# Altium integrated library NSC Interface.IntLib: 1288 symbols (part 25 of 45)
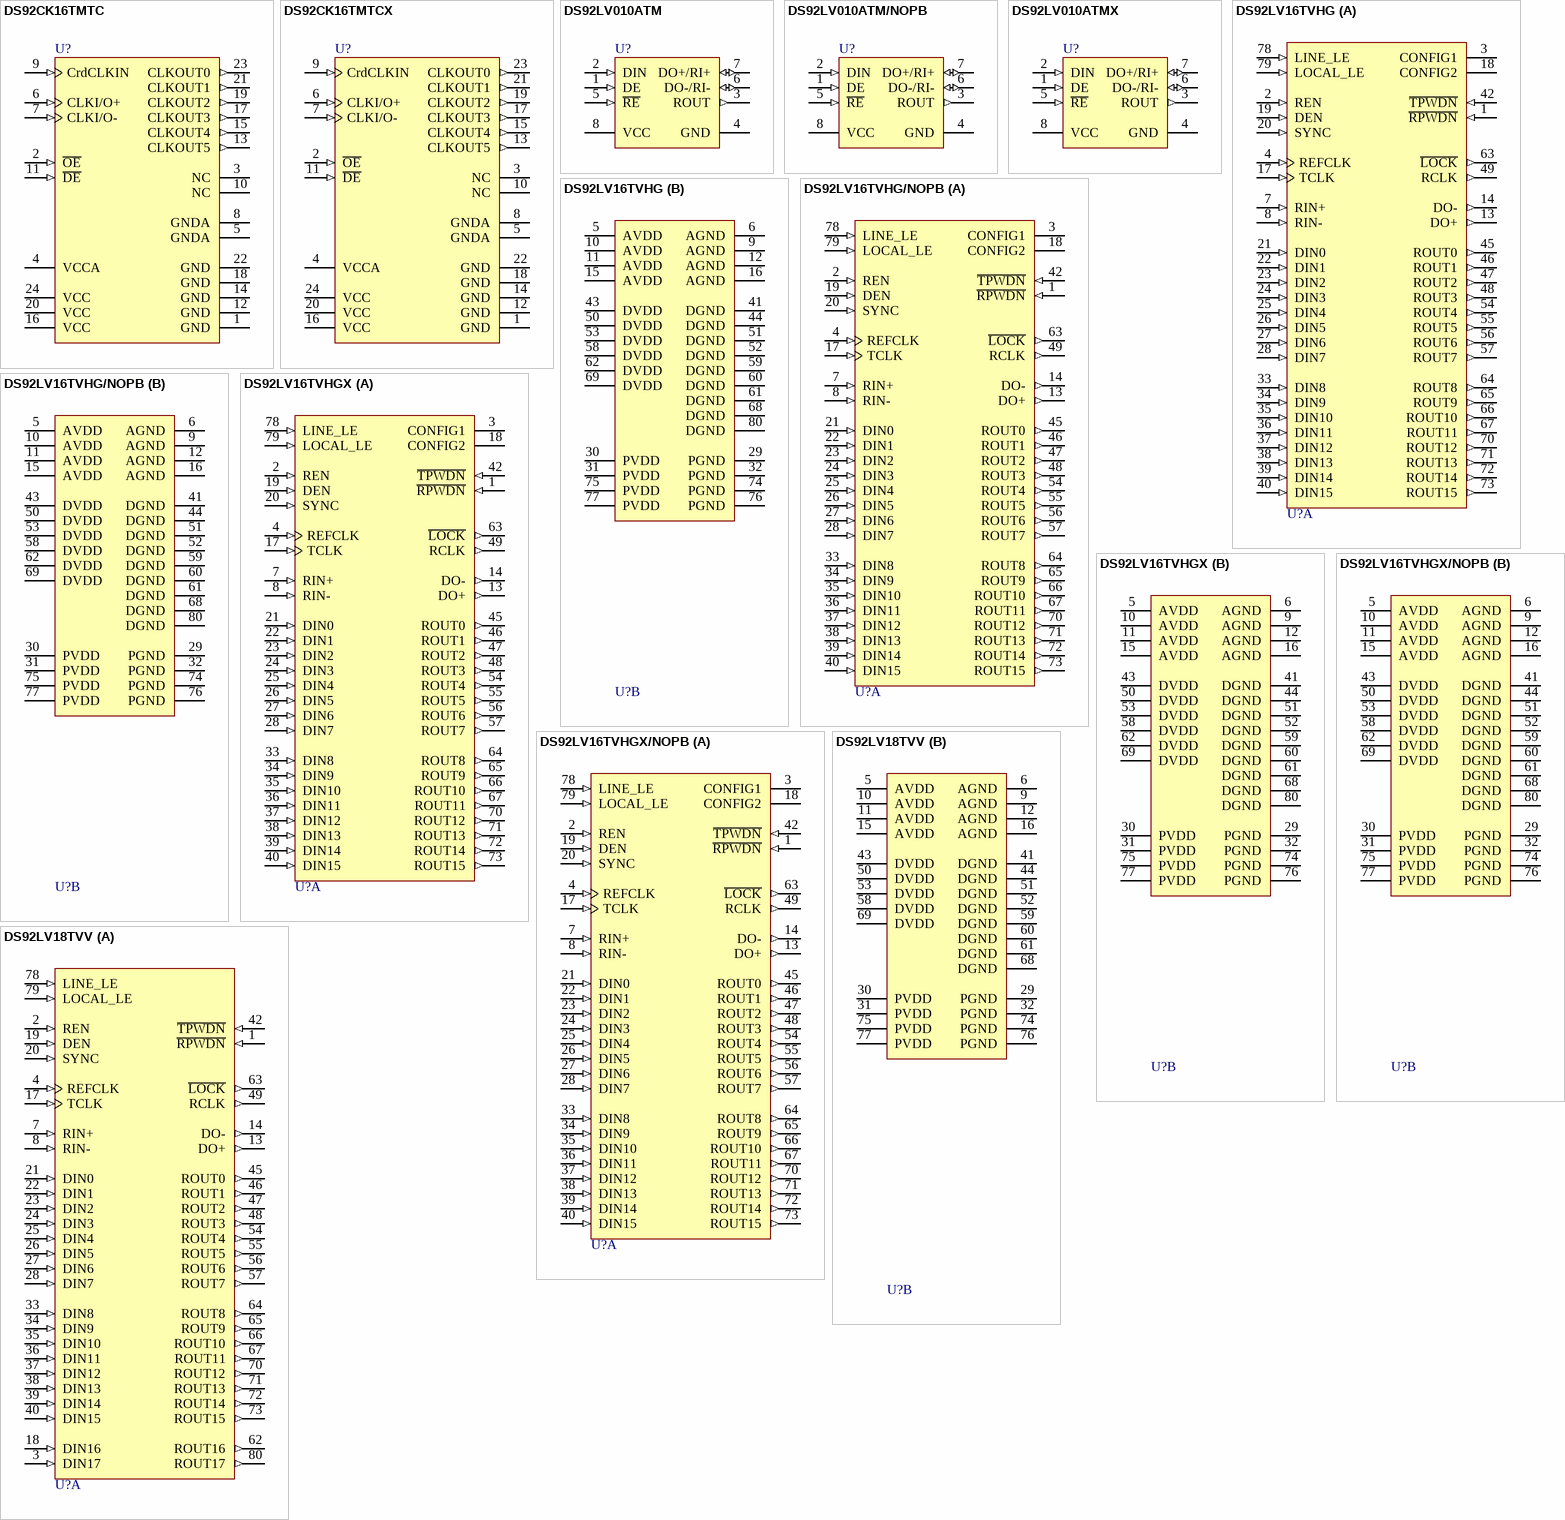
[diagram p136: symbols DS92CK16TMTC to DS92LV18TVV]

## DS92LV16TVHGX/NOPB
designator U?
16-Bit Bus LVDS Serializer/Deserializer - 25 - 80 MHz, 80-pin LQFP, Pb-Free; PartNumber: DS92LV16TVHGX/NOPB; Manufacturer: National Semiconductor; PackageTopMarking: NSUZXYTTE#*DS92LV16TVHG*BBBBB; PowerWise: N; CompType: Interface IC; Published: 1-Mar-2010; DatasheetVersion: Feb-2002; PackageVersion: revE, Feb-2005; PackageReference: VHG80A; Publisher: Altium Limited; PackageDescription: LQFP, Jedec, Metric, 12 x 12 x 1.4mm, 80 Lead, 0.5mm Pitch; Supplier 1: Digi-Key; Supplier Part Number 1: DS92LV16TVHGX-ND; RoHS: Y; PinCount: 80; Code_JEDEC: MS-026-BDD; ComponentLink1Description: DS92LV16 Datasheet; ComponentLink1URL: http://www.national.com/ds/DS/DS92LV16.pdf; ComponentLink2Description: DS92LV16 Web Page; ComponentLink2URL: http://www.national.com/pf/DS/DS92LV16.html; ComponentLink3Description: VHG80A Package Page; ComponentLink3URL: http://www.national.com/packaging/folders/vhg80a.html
footprint VHG80A_N (Thin QFP, 80-Leads, Body 12x12mm, Pitch 0.5mm, IPC Medium Density)
footprint VHG80A_L (Thin QFP, 80-Leads, Body 12x12mm, Pitch 0.5mm, IPC High Density)
footprint VHG80A_M (Thin QFP, 80-Leads, Body 12x12mm, Pitch 0.5mm, IPC Low Density)
part A pins: 1 ~{RPWDN} (in), 2 REN (in), 3 CONFIG1, 4 REFCLK (in), 7 RIN+ (in), 8 RIN- (in), 13 DO+ (out), 14 DO- (out), 17 TCLK (in), 18 CONFIG2, 19 DEN (in), 20 SYNC (in), 21 DIN0 (in), 22 DIN1 (in), 23 DIN2 (in), 24 DIN3 (in), 25 DIN4 (in), 26 DIN5 (in), 27 DIN6 (in), 28 DIN7 (in), 33 DIN8 (in), 34 DIN9 (in), 35 DIN10 (in), 36 DIN11 (in), 37 DIN12 (in), 38 DIN13 (in), 39 DIN14 (in), 40 DIN15 (in), 42 ~{TPWDN} (in), 45 ROUT0 (out), 46 ROUT1 (out), 47 ROUT2 (out), 48 ROUT3 (out), 49 RCLK (out), 54 ROUT4 (out), 55 ROUT5 (out), 56 ROUT6 (out), 57 ROUT7 (out), 63 ~{LOCK} (out), 64 ROUT8 (out), 65 ROUT9 (out), 66 ROUT10 (out), 67 ROUT11 (out), 70 ROUT12 (out), 71 ROUT13 (out), 72 ROUT14 (out), 73 ROUT15 (out), 78 LINE_LE (in), 79 LOCAL_LE (in)
part B pins: 5 AVDD (power), 6 AGND (power), 9 AGND (power), 10 AVDD (power), 11 AVDD (power), 12 AGND (power), 15 AVDD (power), 16 AGND (power), 29 PGND (power), 30 PVDD (power), 31 PVDD (power), 32 PGND (power), 41 DGND (power), 43 DVDD (power), 44 DGND (power), 50 DVDD (power), 51 DGND (power), 52 DGND (power), 53 DVDD (power), 58 DVDD (power), 59 DGND (power), 60 DGND (power), 61 DGND (power), 62 DVDD (power), 68 DGND (power), 69 DVDD (power), 74 PGND (power), 75 PVDD (power), 76 PGND (power), 77 PVDD (power), 80 DGND (power)

## DS92LV18TVV
designator U?
18-Bit Bus LVDS Serializer/Deserializer - 15 - 66 MHz, 80-pin LQFP; PartNumber: DS92LV18TVV; Manufacturer: National Semiconductor; PackageTopMarking: NSUZXYTTE#*DS92LV18TVV*BBBBB; PowerWise: N; CompType: Interface IC; Published: 4-Dec-2008; DatasheetVersion: Jun-2006; PackageVersion: revE, Feb-2005; PackageReference: VHG80A; Publisher: Altium Limited; PackageDescription: LQFP, Jedec, Metric, 12 x 12 x 1.4mm, 80 Lead, 0.5mm Pitch; Supplier 1: Farnell; Supplier Part Number 1: 8181306; RoHS: N; PinCount: 80; Code_JEDEC: MS-026-BDD; ComponentLink1Description: DS92LV18 Datasheet; ComponentLink1URL: http://www.national.com/ds/DS/DS92LV18.pdf; ComponentLink2Description: DS92LV18 Web Page; ComponentLink2URL: http://www.national.com/pf/DS/DS92LV18.html; ComponentLink3Description: VHG80A Package Page; ComponentLink3URL: http://www.national.com/packaging/folders/vhg80a.html
footprint VHG80A_N (Thin QFP, 80-Leads, Body 12x12mm, Pitch 0.5mm, IPC Medium Density)
footprint VHG80A_L (Thin QFP, 80-Leads, Body 12x12mm, Pitch 0.5mm, IPC High Density)
footprint VHG80A_M (Thin QFP, 80-Leads, Body 12x12mm, Pitch 0.5mm, IPC Low Density)
part A pins: 1 ~{RPWDN} (in), 2 REN (in), 3 DIN17 (in), 4 REFCLK (in), 7 RIN+ (in), 8 RIN- (in), 13 DO+ (out), 14 DO- (out), 17 TCLK (in), 18 DIN16 (in), 19 DEN (in), 20 SYNC (in), 21 DIN0 (in), 22 DIN1 (in), 23 DIN2 (in), 24 DIN3 (in), 25 DIN4 (in), 26 DIN5 (in), 27 DIN6 (in), 28 DIN7 (in), 33 DIN8 (in), 34 DIN9 (in), 35 DIN10 (in), 36 DIN11 (in), 37 DIN12 (in), 38 DIN13 (in), 39 DIN14 (in), 40 DIN15 (in), 42 ~{TPWDN} (in), 45 ROUT0 (out), 46 ROUT1 (out), 47 ROUT2 (out), 48 ROUT3 (out), 49 RCLK (out), 54 ROUT4 (out), 55 ROUT5 (out), 56 ROUT6 (out), 57 ROUT7 (out), 62 ROUT16 (out), 63 ~{LOCK} (out), 64 ROUT8 (out), 65 ROUT9 (out), 66 ROUT10 (out), 67 ROUT11 (out), 70 ROUT12 (out), 71 ROUT13 (out), 72 ROUT14 (out), 73 ROUT15 (out), 78 LINE_LE (in), 79 LOCAL_LE (in), 80 ROUT17 (out)
part B pins: 5 AVDD (power), 6 AGND (power), 9 AGND (power), 10 AVDD (power), 11 AVDD (power), 12 AGND (power), 15 AVDD (power), 16 AGND (power), 29 PGND (power), 30 PVDD (power), 31 PVDD (power), 32 PGND (power), 41 DGND (power), 43 DVDD (power), 44 DGND (power), 50 DVDD (power), 51 DGND (power), 52 DGND (power), 53 DVDD (power), 58 DVDD (power), 59 DGND (power), 60 DGND (power), 61 DGND (power), 68 DGND (power), 69 DVDD (power), 74 PGND (power), 75 PVDD (power), 76 PGND (power), 77 PVDD (power)

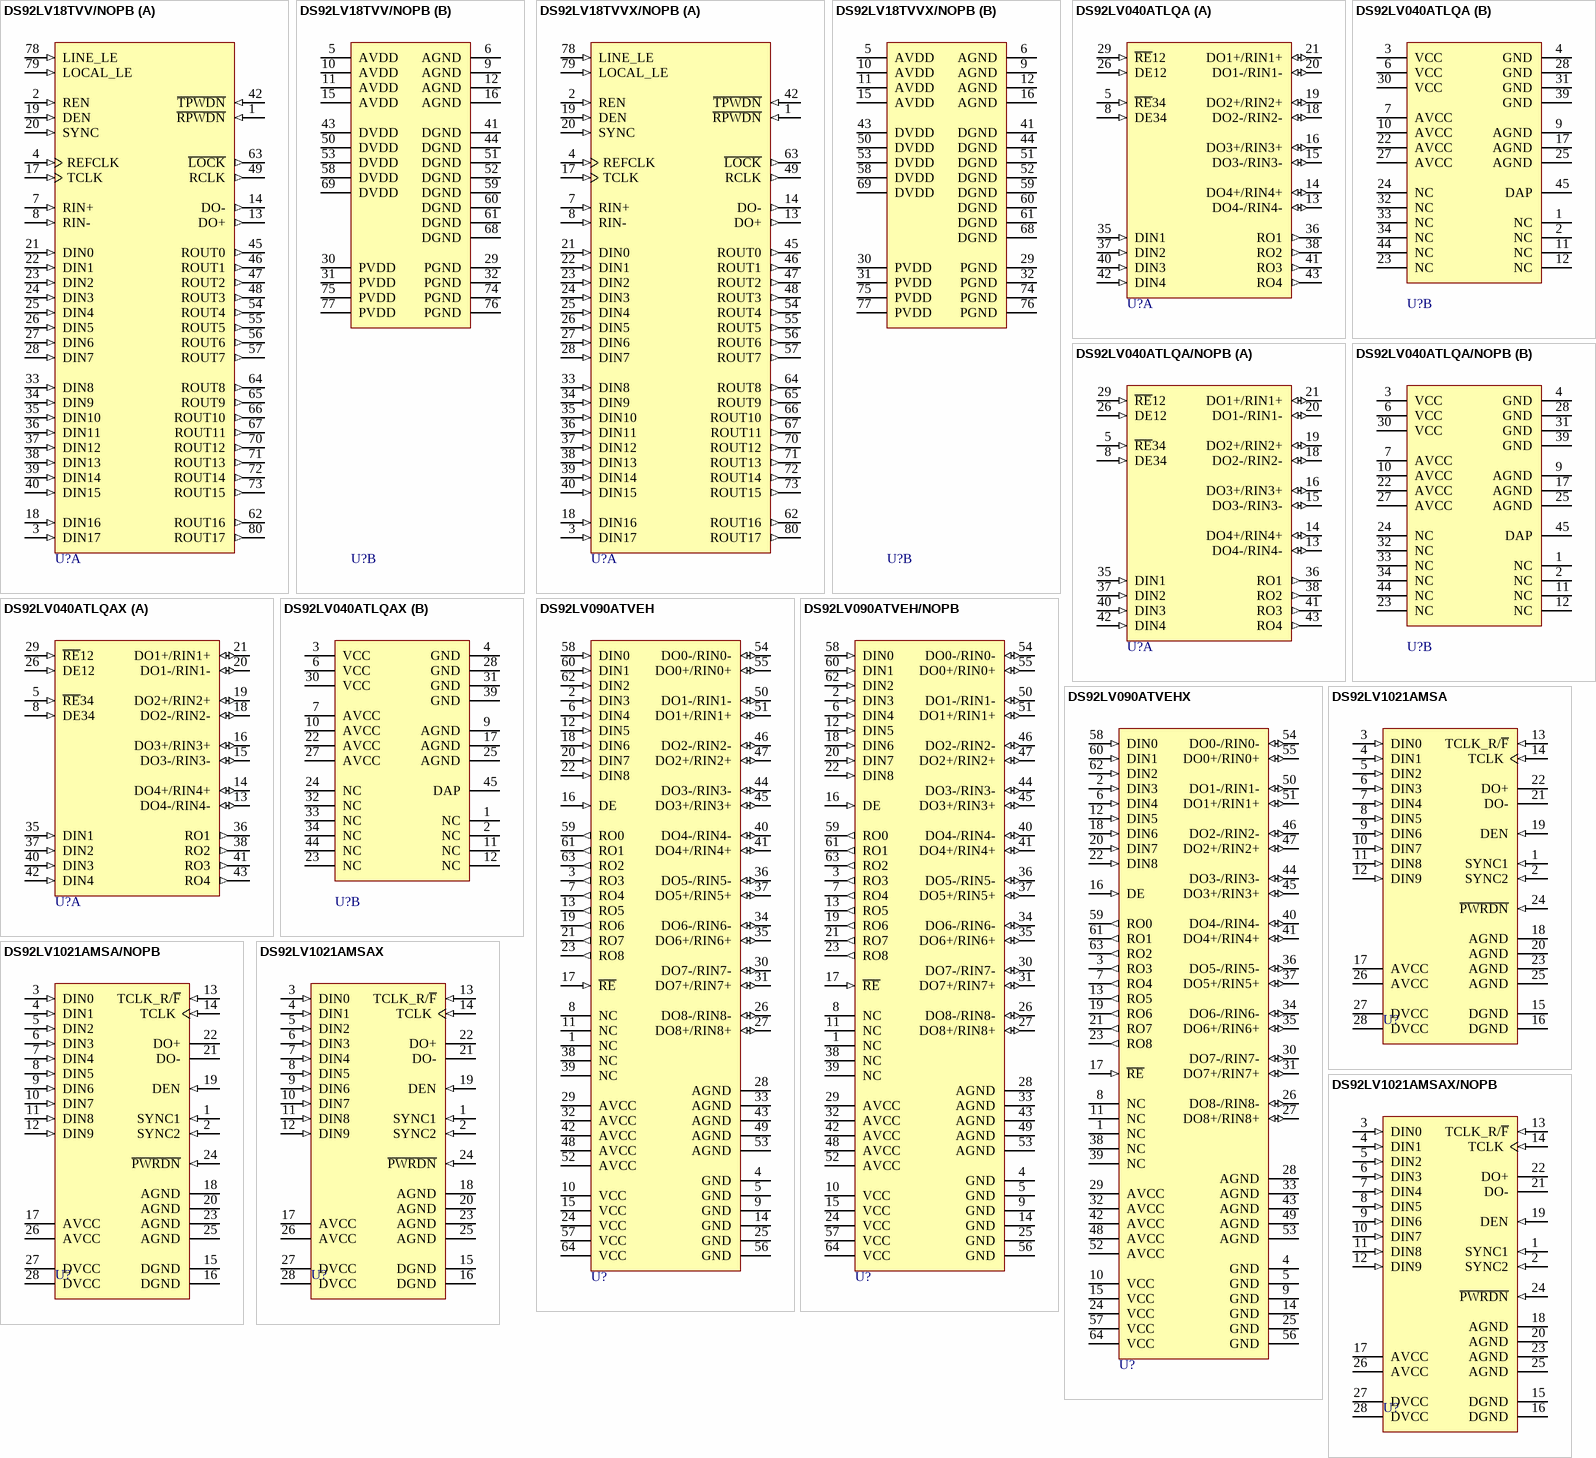
[diagram p65: symbols DS92LV18TVV/NOPB to DS92LV1021AMSAX/NOPB]

## DS92LV18TVV/NOPB
designator U?
18-Bit Bus LVDS Serializer/Deserializer - 15-66 MHz, 80-pin LQFP, Pb-Free; PartNumber: DS92LV18TVV/NOPB; Manufacturer: National Semiconductor; PackageTopMarking: NSUZXYTTE#*DS92LV18TVV*BBBBB; PowerWise: N; CompType: Interface IC; Published: 1-Mar-2010; DatasheetVersion: Jun-2006; PackageVersion: revE, Feb-2005; PackageReference: VHG80A; Publisher: Altium Limited; PackageDescription: LQFP, Jedec, Metric, 12 x 12 x 1.4mm, 80 Lead, 0.5mm Pitch; Supplier 1: Digi-Key; Supplier Part Number 1: DS92LV18TVV-ND; Supplier 2: Farnell; Supplier Part Number 2: 1693938; RoHS: Y; PinCount: 80; Code_JEDEC: MS-026-BDD; ComponentLink1Description: DS92LV18 Datasheet; ComponentLink1URL: http://www.national.com/ds/DS/DS92LV18.pdf; ComponentLink2Description: DS92LV18 Web Page; ComponentLink2URL: http://www.national.com/pf/DS/DS92LV18.html; ComponentLink3Description: VHG80A Package Page; ComponentLink3URL: http://www.national.com/packaging/folders/vhg80a.html
footprint VHG80A_N (Thin QFP, 80-Leads, Body 12x12mm, Pitch 0.5mm, IPC Medium Density)
footprint VHG80A_L (Thin QFP, 80-Leads, Body 12x12mm, Pitch 0.5mm, IPC High Density)
footprint VHG80A_M (Thin QFP, 80-Leads, Body 12x12mm, Pitch 0.5mm, IPC Low Density)
part A pins: 1 ~{RPWDN} (in), 2 REN (in), 3 DIN17 (in), 4 REFCLK (in), 7 RIN+ (in), 8 RIN- (in), 13 DO+ (out), 14 DO- (out), 17 TCLK (in), 18 DIN16 (in), 19 DEN (in), 20 SYNC (in), 21 DIN0 (in), 22 DIN1 (in), 23 DIN2 (in), 24 DIN3 (in), 25 DIN4 (in), 26 DIN5 (in), 27 DIN6 (in), 28 DIN7 (in), 33 DIN8 (in), 34 DIN9 (in), 35 DIN10 (in), 36 DIN11 (in), 37 DIN12 (in), 38 DIN13 (in), 39 DIN14 (in), 40 DIN15 (in), 42 ~{TPWDN} (in), 45 ROUT0 (out), 46 ROUT1 (out), 47 ROUT2 (out), 48 ROUT3 (out), 49 RCLK (out), 54 ROUT4 (out), 55 ROUT5 (out), 56 ROUT6 (out), 57 ROUT7 (out), 62 ROUT16 (out), 63 ~{LOCK} (out), 64 ROUT8 (out), 65 ROUT9 (out), 66 ROUT10 (out), 67 ROUT11 (out), 70 ROUT12 (out), 71 ROUT13 (out), 72 ROUT14 (out), 73 ROUT15 (out), 78 LINE_LE (in), 79 LOCAL_LE (in), 80 ROUT17 (out)
part B pins: 5 AVDD (power), 6 AGND (power), 9 AGND (power), 10 AVDD (power), 11 AVDD (power), 12 AGND (power), 15 AVDD (power), 16 AGND (power), 29 PGND (power), 30 PVDD (power), 31 PVDD (power), 32 PGND (power), 41 DGND (power), 43 DVDD (power), 44 DGND (power), 50 DVDD (power), 51 DGND (power), 52 DGND (power), 53 DVDD (power), 58 DVDD (power), 59 DGND (power), 60 DGND (power), 61 DGND (power), 68 DGND (power), 69 DVDD (power), 74 PGND (power), 75 PVDD (power), 76 PGND (power), 77 PVDD (power)

## DS92LV18TVVX/NOPB
designator U?
18-Bit Bus LVDS Serializer/Deserializer - 15-66 MHz, 80-pin LQFP, Pb-Free; PartNumber: DS92LV18TVVX/NOPB; Manufacturer: National Semiconductor; PackageTopMarking: NSUZXYTTE#*DS92LV18TVV*BBBBB; PowerWise: N; CompType: Interface IC; Published: 1-Mar-2010; DatasheetVersion: Jun-2006; PackageVersion: revE, Feb-2005; PackageReference: VHG80A; Publisher: Altium Limited; PackageDescription: LQFP, Jedec, Metric, 12 x 12 x 1.4mm, 80 Lead, 0.5mm Pitch; Supplier 1: Digi-Key; Supplier Part Number 1: DS92LV18TVVX-ND; RoHS: Y; PinCount: 80; Code_JEDEC: MS-026-BDD; ComponentLink1Description: DS92LV18 Datasheet; ComponentLink1URL: http://www.national.com/ds/DS/DS92LV18.pdf; ComponentLink2Description: DS92LV18 Web Page; ComponentLink2URL: http://www.national.com/pf/DS/DS92LV18.html; ComponentLink3Description: VHG80A Package Page; ComponentLink3URL: http://www.national.com/packaging/folders/vhg80a.html
footprint VHG80A_N (Thin QFP, 80-Leads, Body 12x12mm, Pitch 0.5mm, IPC Medium Density)
footprint VHG80A_L (Thin QFP, 80-Leads, Body 12x12mm, Pitch 0.5mm, IPC High Density)
footprint VHG80A_M (Thin QFP, 80-Leads, Body 12x12mm, Pitch 0.5mm, IPC Low Density)
part A pins: 1 ~{RPWDN} (in), 2 REN (in), 3 DIN17 (in), 4 REFCLK (in), 7 RIN+ (in), 8 RIN- (in), 13 DO+ (out), 14 DO- (out), 17 TCLK (in), 18 DIN16 (in), 19 DEN (in), 20 SYNC (in), 21 DIN0 (in), 22 DIN1 (in), 23 DIN2 (in), 24 DIN3 (in), 25 DIN4 (in), 26 DIN5 (in), 27 DIN6 (in), 28 DIN7 (in), 33 DIN8 (in), 34 DIN9 (in), 35 DIN10 (in), 36 DIN11 (in), 37 DIN12 (in), 38 DIN13 (in), 39 DIN14 (in), 40 DIN15 (in), 42 ~{TPWDN} (in), 45 ROUT0 (out), 46 ROUT1 (out), 47 ROUT2 (out), 48 ROUT3 (out), 49 RCLK (out), 54 ROUT4 (out), 55 ROUT5 (out), 56 ROUT6 (out), 57 ROUT7 (out), 62 ROUT16 (out), 63 ~{LOCK} (out), 64 ROUT8 (out), 65 ROUT9 (out), 66 ROUT10 (out), 67 ROUT11 (out), 70 ROUT12 (out), 71 ROUT13 (out), 72 ROUT14 (out), 73 ROUT15 (out), 78 LINE_LE (in), 79 LOCAL_LE (in), 80 ROUT17 (out)
part B pins: 5 AVDD (power), 6 AGND (power), 9 AGND (power), 10 AVDD (power), 11 AVDD (power), 12 AGND (power), 15 AVDD (power), 16 AGND (power), 29 PGND (power), 30 PVDD (power), 31 PVDD (power), 32 PGND (power), 41 DGND (power), 43 DVDD (power), 44 DGND (power), 50 DVDD (power), 51 DGND (power), 52 DGND (power), 53 DVDD (power), 58 DVDD (power), 59 DGND (power), 60 DGND (power), 61 DGND (power), 68 DGND (power), 69 DVDD (power), 74 PGND (power), 75 PVDD (power), 76 PGND (power), 77 PVDD (power)

## DS92LV040ATLQA
designator U?
4 Channel Bus LVDS Transceiver, 44-pin LLP; PartNumber: DS92LV040ATLQA; Manufacturer: National Semiconductor; PackageTopMarking: NS*UZXYTTE#*LV040A; PowerWise: N; CompType: Interface IC; Published: 4-Dec-2008; DatasheetVersion: Aug-2002; PackageVersion: revB, Oct-2001; PackageReference: LQA44A; Publisher: Altium Limited; PackageDescription: LLP, Plastic, Quad, 7 x 7 x 0.75mm Body, 44 Lead, 0.5mm Pitch; Supplier 1: Farnell; Supplier Part Number 1: 1495091; RoHS: N; PinCount: 44; ComponentLink1Description: DS92LV040A Datasheet; ComponentLink1URL: http://www.national.com/ds/DS/DS92LV040A.pdf; ComponentLink2Description: DS92LV040A Web Page; ComponentLink2URL: http://www.national.com/pf/DS/DS92LV040A.html; ComponentLink3Description: LQA44A Package Page; ComponentLink3URL: http://www.national.com/packaging/folders/lqa44a.html
footprint LQA44A (PQFN, 44-Leads, Body 7x7mm, Pitch 0.5mm, NSC Recommended)
part A pins: 5 ~{RE}34 (in), 8 DE34 (in), 13 DO4-/RIN4- (io), 14 DO4+/RIN4+ (io), 15 DO3-/RIN3- (io), 16 DO3+/RIN3+ (io), 18 DO2-/RIN2- (io), 19 DO2+/RIN2+ (io), 20 DO1-/RIN1- (io), 21 DO1+/RIN1+ (io), 26 DE12 (in), 29 ~{RE}12 (in), 35 DIN1 (in), 36 RO1 (out), 37 DIN2 (in), 38 RO2 (out), 40 DIN3 (in), 41 RO3 (out), 42 DIN4 (in), 43 RO4 (out)
part B pins: 1 NC, 2 NC, 3 VCC (power), 4 GND (power), 6 VCC (power), 7 AVCC (power), 9 AGND (power), 10 AVCC (power), 11 NC, 12 NC, 17 AGND (power), 22 AVCC (power), 23 NC, 24 NC, 25 AGND (power), 27 AVCC (power), 28 GND (power), 30 VCC (power), 31 GND (power), 32 NC, 33 NC, 34 NC, 39 GND (power), 44 NC, 45 DAP (power)

## DS92LV040ATLQA/NOPB
designator U?
4 Channel Bus LVDS Transceiver, 44-pin LLP, Pb-Free; PartNumber: DS92LV040ATLQA/NOPB; Manufacturer: National Semiconductor; PackageTopMarking: NS*UZXYTTE#*LV040A; PowerWise: N; CompType: Interface IC; Published: 1-Mar-2010; DatasheetVersion: Aug-2002; PackageVersion: revB, Oct-2001; PackageReference: LQA44A; Publisher: Altium Limited; PackageDescription: LLP, Plastic, Quad, 7 x 7 x 0.75mm Body, 44 Lead, 0.5mm Pitch; Supplier 1: Digi-Key; Supplier Part Number 1: DS92LV040ATLQATR-ND; Supplier 2: Digi-Key; Supplier Part Number 2: DS92LV040ATLQACT-ND; Supplier 3: Digi-Key; Supplier Part Number 3: DS92LV040ATLQADKR-ND; Supplier 4: Farnell; Supplier Part Number 4: 1693937; RoHS: Y; PinCount: 44; ComponentLink1Description: DS92LV040A Datasheet; ComponentLink1URL: http://www.national.com/ds/DS/DS92LV040A.pdf; ComponentLink2Description: DS92LV040A Web Page; ComponentLink2URL: http://www.national.com/pf/DS/DS92LV040A.html; ComponentLink3Description: LQA44A Package Page; ComponentLink3URL: http://www.national.com/packaging/folders/lqa44a.html
footprint LQA44A (PQFN, 44-Leads, Body 7x7mm, Pitch 0.5mm, NSC Recommended)
part A pins: 5 ~{RE}34 (in), 8 DE34 (in), 13 DO4-/RIN4- (io), 14 DO4+/RIN4+ (io), 15 DO3-/RIN3- (io), 16 DO3+/RIN3+ (io), 18 DO2-/RIN2- (io), 19 DO2+/RIN2+ (io), 20 DO1-/RIN1- (io), 21 DO1+/RIN1+ (io), 26 DE12 (in), 29 ~{RE}12 (in), 35 DIN1 (in), 36 RO1 (out), 37 DIN2 (in), 38 RO2 (out), 40 DIN3 (in), 41 RO3 (out), 42 DIN4 (in), 43 RO4 (out)
part B pins: 1 NC, 2 NC, 3 VCC (power), 4 GND (power), 6 VCC (power), 7 AVCC (power), 9 AGND (power), 10 AVCC (power), 11 NC, 12 NC, 17 AGND (power), 22 AVCC (power), 23 NC, 24 NC, 25 AGND (power), 27 AVCC (power), 28 GND (power), 30 VCC (power), 31 GND (power), 32 NC, 33 NC, 34 NC, 39 GND (power), 44 NC, 45 DAP (power)

## DS92LV040ATLQAX
designator U?
4 Channel Bus LVDS Transceiver, 44-pin LLP; PartNumber: DS92LV040ATLQAX; Manufacturer: National Semiconductor; PackageTopMarking: NS*UZXYTTE#*LV040A; PowerWise: N; CompType: Interface IC; Published: 1-Mar-2010; DatasheetVersion: Aug-2002; PackageVersion: revB, Oct-2001; PackageReference: LQA44A; Publisher: Altium Limited; PackageDescription: LLP, Plastic, Quad, 7 x 7 x 0.75mm Body, 44 Lead, 0.5mm Pitch; RoHS: N; PinCount: 44; ComponentLink1Description: DS92LV040A Datasheet; ComponentLink1URL: http://www.national.com/ds/DS/DS92LV040A.pdf; ComponentLink2Description: DS92LV040A Web Page; ComponentLink2URL: http://www.national.com/pf/DS/DS92LV040A.html; ComponentLink3Description: LQA44A Package Page; ComponentLink3URL: http://www.national.com/packaging/folders/lqa44a.html
footprint LQA44A (PQFN, 44-Leads, Body 7x7mm, Pitch 0.5mm, NSC Recommended)
part A pins: 5 ~{RE}34 (in), 8 DE34 (in), 13 DO4-/RIN4- (io), 14 DO4+/RIN4+ (io), 15 DO3-/RIN3- (io), 16 DO3+/RIN3+ (io), 18 DO2-/RIN2- (io), 19 DO2+/RIN2+ (io), 20 DO1-/RIN1- (io), 21 DO1+/RIN1+ (io), 26 DE12 (in), 29 ~{RE}12 (in), 35 DIN1 (in), 36 RO1 (out), 37 DIN2 (in), 38 RO2 (out), 40 DIN3 (in), 41 RO3 (out), 42 DIN4 (in), 43 RO4 (out)
part B pins: 1 NC, 2 NC, 3 VCC (power), 4 GND (power), 6 VCC (power), 7 AVCC (power), 9 AGND (power), 10 AVCC (power), 11 NC, 12 NC, 17 AGND (power), 22 AVCC (power), 23 NC, 24 NC, 25 AGND (power), 27 AVCC (power), 28 GND (power), 30 VCC (power), 31 GND (power), 32 NC, 33 NC, 34 NC, 39 GND (power), 44 NC, 45 DAP (power)

## DS92LV090ATVEH
designator U?
9 Channel Bus LVDS Transceiver, 64-pin LQFP; PartNumber: DS92LV090ATVEH; Manufacturer: National Semiconductor; PackageTopMarking: NSUZXYYTTE#*DS92LV090A*TVEH; PowerWise: N; CompType: Interface IC; Published: 4-Dec-2008; DatasheetVersion: Dec-2007; PackageVersion: revC, Dec-1999; PackageReference: VEH64A; Publisher: Altium Limited; PackageDescription: LQFP, Jedec, Metric, 10 x 10 x 1.4mm, 64 Lead; Supplier 1: Farnell; Supplier Part Number 1: 1528381; RoHS: N; PinCount: 64; Code_JEDEC: MS-026-BCD; ComponentLink1Description: DS92LV090A Datasheet; ComponentLink1URL: http://www.national.com/ds/DS/DS92LV090A.pdf; ComponentLink2Description: DS92LV090A Web Page; ComponentLink2URL: http://www.national.com/pf/DS/DS92LV090A.html; ComponentLink3Description: VEH64A Package Page; ComponentLink3URL: http://www.national.com/packaging/folders/veh64a.html
footprint VEH64A_N (Thin QFP, 64-Leads, Body 10x10mm, Pitch 0.5mm, IPC Medium Density)
footprint VEH64A_L (Thin QFP, 64-Leads, Body 10x10mm, Pitch 0.5mm, IPC High Density)
footprint VEH64A_M (Thin QFP, 64-Leads, Body 10x10mm, Pitch 0.5mm, IPC Low Density)
pins: 1 NC, 2 DIN3 (in), 3 RO3 (out), 4 GND (power), 5 GND (power), 6 DIN4 (in), 7 RO4 (out), 8 NC, 9 GND (power), 10 VCC (power), 11 NC, 12 DIN5 (in), 13 RO5 (out), 14 GND (power), 15 VCC (power), 16 DE (in), 17 ~{RE} (in), 18 DIN6 (in), 19 RO6 (out), 20 DIN7 (in), 21 RO7 (out), 22 DIN8 (in), 23 RO8 (out), 24 VCC (power), 25 GND (power), 26 DO8-/RIN8- (io), 27 DO8+/RIN8+ (io), 28 AGND (power), 29 AVCC (power), 30 DO7-/RIN7- (io), 31 DO7+/RIN7+ (io), 32 AVCC (power), 33 AGND (power), 34 DO6-/RIN6- (io), 35 DO6+/RIN6+ (io), 36 DO5-/RIN5- (io), 37 DO5+/RIN5+ (io), 38 NC, 39 NC, 40 DO4-/RIN4- (io), 41 DO4+/RIN4+ (io), 42 AVCC (power), 43 AGND (power), 44 DO3-/RIN3- (io), 45 DO3+/RIN3+ (io), 46 DO2-/RIN2- (io), 47 DO2+/RIN2+ (io), 48 AVCC (power), 49 AGND (power), 50 DO1-/RIN1- (io), 51 DO1+/RIN1+ (io), 52 AVCC (power), 53 AGND (power), 54 DO0-/RIN0- (io), 55 DO0+/RIN0+ (io), 56 GND (power), 57 VCC (power), 58 DIN0 (in), 59 RO0 (out), 60 DIN1 (in), 61 RO1 (out), 62 DIN2 (in), 63 RO2 (out), 64 VCC (power)

## DS92LV090ATVEH/NOPB
designator U?
9 Channel Bus LVDS Transceiver, 64-pin LQFP, Pb-Free; PartNumber: DS92LV090ATVEH/NOPB; Manufacturer: National Semiconductor; PackageTopMarking: NSUZXYYTTE#*DS92LV090A*TVEH; PowerWise: N; CompType: Interface IC; Published: 1-Mar-2010; DatasheetVersion: Dec-2007; PackageVersion: revC, Dec-1999; PackageReference: VEH64A; Publisher: Altium Limited; PackageDescription: LQFP, Jedec, Metric, 10 x 10 x 1.4mm, 64 Lead; Supplier 1: Digi-Key; Supplier Part Number 1: DS92LV090ATVEH-ND; Supplier 2: Farnell; Supplier Part Number 2: 1654294; RoHS: Y; PinCount: 64; Code_JEDEC: MS-026-BCD; ComponentLink1Description: DS92LV090A Datasheet; ComponentLink1URL: http://www.national.com/ds/DS/DS92LV090A.pdf; ComponentLink2Description: DS92LV090A Web Page; ComponentLink2URL: http://www.national.com/pf/DS/DS92LV090A.html; ComponentLink3Description: VEH64A Package Page; ComponentLink3URL: http://www.national.com/packaging/folders/veh64a.html
footprint VEH64A_N (Thin QFP, 64-Leads, Body 10x10mm, Pitch 0.5mm, IPC Medium Density)
footprint VEH64A_L (Thin QFP, 64-Leads, Body 10x10mm, Pitch 0.5mm, IPC High Density)
footprint VEH64A_M (Thin QFP, 64-Leads, Body 10x10mm, Pitch 0.5mm, IPC Low Density)
pins: 1 NC, 2 DIN3 (in), 3 RO3 (out), 4 GND (power), 5 GND (power), 6 DIN4 (in), 7 RO4 (out), 8 NC, 9 GND (power), 10 VCC (power), 11 NC, 12 DIN5 (in), 13 RO5 (out), 14 GND (power), 15 VCC (power), 16 DE (in), 17 ~{RE} (in), 18 DIN6 (in), 19 RO6 (out), 20 DIN7 (in), 21 RO7 (out), 22 DIN8 (in), 23 RO8 (out), 24 VCC (power), 25 GND (power), 26 DO8-/RIN8- (io), 27 DO8+/RIN8+ (io), 28 AGND (power), 29 AVCC (power), 30 DO7-/RIN7- (io), 31 DO7+/RIN7+ (io), 32 AVCC (power), 33 AGND (power), 34 DO6-/RIN6- (io), 35 DO6+/RIN6+ (io), 36 DO5-/RIN5- (io), 37 DO5+/RIN5+ (io), 38 NC, 39 NC, 40 DO4-/RIN4- (io), 41 DO4+/RIN4+ (io), 42 AVCC (power), 43 AGND (power), 44 DO3-/RIN3- (io), 45 DO3+/RIN3+ (io), 46 DO2-/RIN2- (io), 47 DO2+/RIN2+ (io), 48 AVCC (power), 49 AGND (power), 50 DO1-/RIN1- (io), 51 DO1+/RIN1+ (io), 52 AVCC (power), 53 AGND (power), 54 DO0-/RIN0- (io), 55 DO0+/RIN0+ (io), 56 GND (power), 57 VCC (power), 58 DIN0 (in), 59 RO0 (out), 60 DIN1 (in), 61 RO1 (out), 62 DIN2 (in), 63 RO2 (out), 64 VCC (power)

## DS92LV090ATVEHX
designator U?
9 Channel Bus LVDS Transceiver, 64-pin LQFP; PartNumber: DS92LV090ATVEHX; Manufacturer: National Semiconductor; PackageTopMarking: NSUZXYYTTE#*DS92LV090A*TVEH; PowerWise: N; CompType: Interface IC; Published: 1-Mar-2010; DatasheetVersion: Dec-2007; PackageVersion: revC, Dec-1999; PackageReference: VEH64A; Publisher: Altium Limited; PackageDescription: LQFP, Jedec, Metric, 10 x 10 x 1.4mm, 64 Lead; RoHS: N; PinCount: 64; Code_JEDEC: MS-026-BCD; ComponentLink1Description: DS92LV090A Datasheet; ComponentLink1URL: http://www.national.com/ds/DS/DS92LV090A.pdf; ComponentLink2Description: DS92LV090A Web Page; ComponentLink2URL: http://www.national.com/pf/DS/DS92LV090A.html; ComponentLink3Description: VEH64A Package Page; ComponentLink3URL: http://www.national.com/packaging/folders/veh64a.html
footprint VEH64A_N (Thin QFP, 64-Leads, Body 10x10mm, Pitch 0.5mm, IPC Medium Density)
footprint VEH64A_L (Thin QFP, 64-Leads, Body 10x10mm, Pitch 0.5mm, IPC High Density)
footprint VEH64A_M (Thin QFP, 64-Leads, Body 10x10mm, Pitch 0.5mm, IPC Low Density)
pins: 1 NC, 2 DIN3 (in), 3 RO3 (out), 4 GND (power), 5 GND (power), 6 DIN4 (in), 7 RO4 (out), 8 NC, 9 GND (power), 10 VCC (power), 11 NC, 12 DIN5 (in), 13 RO5 (out), 14 GND (power), 15 VCC (power), 16 DE (in), 17 ~{RE} (in), 18 DIN6 (in), 19 RO6 (out), 20 DIN7 (in), 21 RO7 (out), 22 DIN8 (in), 23 RO8 (out), 24 VCC (power), 25 GND (power), 26 DO8-/RIN8- (io), 27 DO8+/RIN8+ (io), 28 AGND (power), 29 AVCC (power), 30 DO7-/RIN7- (io), 31 DO7+/RIN7+ (io), 32 AVCC (power), 33 AGND (power), 34 DO6-/RIN6- (io), 35 DO6+/RIN6+ (io), 36 DO5-/RIN5- (io), 37 DO5+/RIN5+ (io), 38 NC, 39 NC, 40 DO4-/RIN4- (io), 41 DO4+/RIN4+ (io), 42 AVCC (power), 43 AGND (power), 44 DO3-/RIN3- (io), 45 DO3+/RIN3+ (io), 46 DO2-/RIN2- (io), 47 DO2+/RIN2+ (io), 48 AVCC (power), 49 AGND (power), 50 DO1-/RIN1- (io), 51 DO1+/RIN1+ (io), 52 AVCC (power), 53 AGND (power), 54 DO0-/RIN0- (io), 55 DO0+/RIN0+ (io), 56 GND (power), 57 VCC (power), 58 DIN0 (in), 59 RO0 (out), 60 DIN1 (in), 61 RO1 (out), 62 DIN2 (in), 63 RO2 (out), 64 VCC (power)

## DS92LV1021AMSA
designator U?
16 MHz - 40 MHz 10-Bit Serializer, 28-pin SSOP-EIAJ; PartNumber: DS92LV1021AMSA; Manufacturer: National Semiconductor; PackageTopMarking: NSUZXYTTE#*DS92LV1021A*MSA BBBBB; PowerWise: N; CompType: Interface IC; Published: 4-Dec-2008; DatasheetVersion: Jan-2003; PackageVersion: revC, Oct-2009; PackageReference: MSA28; Publisher: Altium Limited; PackageDescription: Molded SSOP, 5.3mm Body Width, 0.65mm Pitch, EIAJ, Type II, 28 Lead; Supplier 1: Farnell; Supplier Part Number 1: 8206830; RoHS: N; PinCount: 28; Code_IPC: SOP65P780-28; ComponentLink1Description: DS92LV1021A Datasheet; ComponentLink1URL: http://www.national.com/ds/DS/DS92LV1021A.pdf; ComponentLink2Description: DS92LV1021A Web Page; ComponentLink2URL: http://www.national.com/pf/DS/DS92LV1021A.html; ComponentLink3Description: MSA28 Package Page; ComponentLink3URL: http://www.national.com/packaging/folders/msa28.html
footprint MSA28_N (SOP, 28-Leads, Body 10.2x5.3mm, Pitch 0.65mm, IPC Medium Density)
footprint MSA28_L (SOP, 28-Leads, Body 10.2x5.3mm, Pitch 0.65mm, IPC High Density)
footprint MSA28_M (SOP, 28-Leads, Body 10.2x5.3mm, Pitch 0.65mm, IPC Low Density)
pins: 1 SYNC1 (in), 2 SYNC2 (in), 3 DIN0 (in), 4 DIN1 (in), 5 DIN2 (in), 6 DIN3 (in), 7 DIN4 (in), 8 DIN5 (in), 9 DIN6 (in), 10 DIN7 (in), 11 DIN8 (in), 12 DIN9 (in), 13 TCLK_R/~{F} (in), 14 TCLK (in), 15 DGND (power), 16 DGND (power), 17 AVCC (power), 18 AGND (power), 19 DEN (in), 20 AGND (power), 21 DO- (hiz), 22 DO+ (hiz), 23 AGND (power), 24 ~{PWRDN} (in), 25 AGND (power), 26 AVCC (power), 27 DVCC (power), 28 DVCC (power)

## DS92LV1021AMSA/NOPB
designator U?
16 MHz - 40 MHz 10-Bit Serializer, 28-pin SSOP-EIAJ, Pb-Free; PartNumber: DS92LV1021AMSA/NOPB; Manufacturer: National Semiconductor; PackageTopMarking: NSUZXYTTE#*DS92LV1021A*MSA BBBBB; PowerWise: N; CompType: Interface IC; Published: 1-Mar-2010; DatasheetVersion: Jan-2003; PackageVersion: revC, Oct-2009; PackageReference: MSA28; Publisher: Altium Limited; PackageDescription: Molded SSOP, 5.3mm Body Width, 0.65mm Pitch, EIAJ, Type II, 28 Lead; Supplier 1: Digi-Key; Supplier Part Number 1: DS92LV1021AMSA-ND; Supplier 2: Farnell; Supplier Part Number 2: 1559312; RoHS: Y; PinCount: 28; Code_IPC: SOP65P780-28; ComponentLink1Description: DS92LV1021A Datasheet; ComponentLink1URL: http://www.national.com/ds/DS/DS92LV1021A.pdf; ComponentLink2Description: DS92LV1021A Web Page; ComponentLink2URL: http://www.national.com/pf/DS/DS92LV1021A.html; ComponentLink3Description: MSA28 Package Page; ComponentLink3URL: http://www.national.com/packaging/folders/msa28.html
footprint MSA28_N (SOP, 28-Leads, Body 10.2x5.3mm, Pitch 0.65mm, IPC Medium Density)
footprint MSA28_L (SOP, 28-Leads, Body 10.2x5.3mm, Pitch 0.65mm, IPC High Density)
footprint MSA28_M (SOP, 28-Leads, Body 10.2x5.3mm, Pitch 0.65mm, IPC Low Density)
pins: 1 SYNC1 (in), 2 SYNC2 (in), 3 DIN0 (in), 4 DIN1 (in), 5 DIN2 (in), 6 DIN3 (in), 7 DIN4 (in), 8 DIN5 (in), 9 DIN6 (in), 10 DIN7 (in), 11 DIN8 (in), 12 DIN9 (in), 13 TCLK_R/~{F} (in), 14 TCLK (in), 15 DGND (power), 16 DGND (power), 17 AVCC (power), 18 AGND (power), 19 DEN (in), 20 AGND (power), 21 DO- (hiz), 22 DO+ (hiz), 23 AGND (power), 24 ~{PWRDN} (in), 25 AGND (power), 26 AVCC (power), 27 DVCC (power), 28 DVCC (power)

## DS92LV1021AMSAX
designator U?
16 MHz - 40 MHz 10-Bit Serializer, 28-pin SSOP-EIAJ; PartNumber: DS92LV1021AMSAX; Manufacturer: National Semiconductor; PackageTopMarking: NSUZXYTTE#*DS92LV1021A*MSA BBBBB; PowerWise: N; CompType: Interface IC; Published: 1-Mar-2010; DatasheetVersion: Jan-2003; PackageVersion: revC, Oct-2009; PackageReference: MSA28; Publisher: Altium Limited; PackageDescription: Molded SSOP, 5.3mm Body Width, 0.65mm Pitch, EIAJ, Type II, 28 Lead; RoHS: N; PinCount: 28; Code_IPC: SOP65P780-28; ComponentLink1Description: DS92LV1021A Datasheet; ComponentLink1URL: http://www.national.com/ds/DS/DS92LV1021A.pdf; ComponentLink2Description: DS92LV1021A Web Page; ComponentLink2URL: http://www.national.com/pf/DS/DS92LV1021A.html; ComponentLink3Description: MSA28 Package Page; ComponentLink3URL: http://www.national.com/packaging/folders/msa28.html
footprint MSA28_N (SOP, 28-Leads, Body 10.2x5.3mm, Pitch 0.65mm, IPC Medium Density)
footprint MSA28_L (SOP, 28-Leads, Body 10.2x5.3mm, Pitch 0.65mm, IPC High Density)
footprint MSA28_M (SOP, 28-Leads, Body 10.2x5.3mm, Pitch 0.65mm, IPC Low Density)
pins: 1 SYNC1 (in), 2 SYNC2 (in), 3 DIN0 (in), 4 DIN1 (in), 5 DIN2 (in), 6 DIN3 (in), 7 DIN4 (in), 8 DIN5 (in), 9 DIN6 (in), 10 DIN7 (in), 11 DIN8 (in), 12 DIN9 (in), 13 TCLK_R/~{F} (in), 14 TCLK (in), 15 DGND (power), 16 DGND (power), 17 AVCC (power), 18 AGND (power), 19 DEN (in), 20 AGND (power), 21 DO- (hiz), 22 DO+ (hiz), 23 AGND (power), 24 ~{PWRDN} (in), 25 AGND (power), 26 AVCC (power), 27 DVCC (power), 28 DVCC (power)

## DS92LV1021AMSAX/NOPB
designator U?
16 MHz - 40 MHz 10-Bit Serializer, 28-pin SSOP-EIAJ, Pb-Free; PartNumber: DS92LV1021AMSAX/NOPB; Manufacturer: National Semiconductor; PackageTopMarking: NSUZXYTTE#*DS92LV1021A*MSA BBBBB; PowerWise: N; CompType: Interface IC; Published: 1-Mar-2010; DatasheetVersion: Jan-2003; PackageVersion: revC, Oct-2009; PackageReference: MSA28; Publisher: Altium Limited; PackageDescription: Molded SSOP, 5.3mm Body Width, 0.65mm Pitch, EIAJ, Type II, 28 Lead; Supplier 1: Digi-Key; Supplier Part Number 1: DS92LV1021AMSAX-ND; RoHS: Y; PinCount: 28; Code_IPC: SOP65P780-28; ComponentLink1Description: DS92LV1021A Datasheet; ComponentLink1URL: http://www.national.com/ds/DS/DS92LV1021A.pdf; ComponentLink2Description: DS92LV1021A Web Page; ComponentLink2URL: http://www.national.com/pf/DS/DS92LV1021A.html; ComponentLink3Description: MSA28 Package Page; ComponentLink3URL: http://www.national.com/packaging/folders/msa28.html
footprint MSA28_N (SOP, 28-Leads, Body 10.2x5.3mm, Pitch 0.65mm, IPC Medium Density)
footprint MSA28_L (SOP, 28-Leads, Body 10.2x5.3mm, Pitch 0.65mm, IPC High Density)
footprint MSA28_M (SOP, 28-Leads, Body 10.2x5.3mm, Pitch 0.65mm, IPC Low Density)
pins: 1 SYNC1 (in), 2 SYNC2 (in), 3 DIN0 (in), 4 DIN1 (in), 5 DIN2 (in), 6 DIN3 (in), 7 DIN4 (in), 8 DIN5 (in), 9 DIN6 (in), 10 DIN7 (in), 11 DIN8 (in), 12 DIN9 (in), 13 TCLK_R/~{F} (in), 14 TCLK (in), 15 DGND (power), 16 DGND (power), 17 AVCC (power), 18 AGND (power), 19 DEN (in), 20 AGND (power), 21 DO- (hiz), 22 DO+ (hiz), 23 AGND (power), 24 ~{PWRDN} (in), 25 AGND (power), 26 AVCC (power), 27 DVCC (power), 28 DVCC (power)

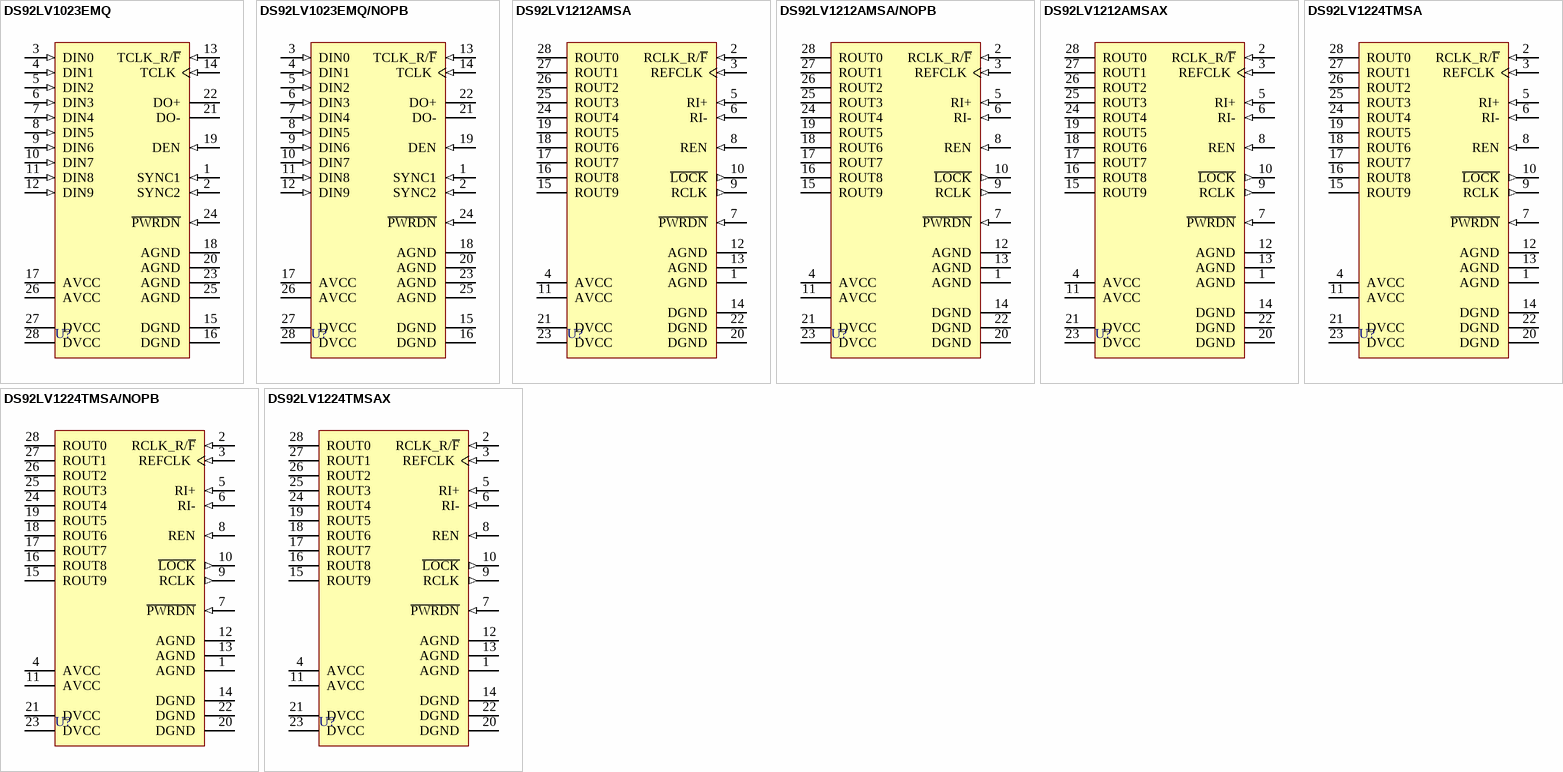
[diagram p66: symbols DS92LV1023EMQ to DS92LV1224TMSAX]

## DS92LV1023EMQ
designator U?
30-66 MHz 10-Bit Serializer, 28-pin SSOP-EIAJ; PartNumber: DS92LV1023EMQ; Manufacturer: National Semiconductor; PackageTopMarking: NSUZXYTTE#*DS92LV1023*EMQ; PowerWise: N; CompType: Interface IC; Published: 4-Dec-2008; DatasheetVersion: Apr-2005; PackageVersion: revC, Oct-2009; PackageReference: MSA28; Publisher: Altium Limited; PackageDescription: Molded SSOP, 5.3mm Body Width, 0.65mm Pitch, EIAJ, Type II, 28 Lead; RoHS: N; PinCount: 28; Code_IPC: SOP65P780-28; ComponentLink1Description: DS92LV1023E Datasheet; ComponentLink1URL: http://www.national.com/ds/DS/DS92LV1023E.pdf; ComponentLink2Description: DS92LV1023E Web Page; ComponentLink2URL: http://www.national.com/pf/DS/DS92LV1023E.html; ComponentLink3Description: MSA28 Package Page; ComponentLink3URL: http://www.national.com/packaging/folders/msa28.html
footprint MSA28_N (SOP, 28-Leads, Body 10.2x5.3mm, Pitch 0.65mm, IPC Medium Density)
footprint MSA28_L (SOP, 28-Leads, Body 10.2x5.3mm, Pitch 0.65mm, IPC High Density)
footprint MSA28_M (SOP, 28-Leads, Body 10.2x5.3mm, Pitch 0.65mm, IPC Low Density)
pins: 1 SYNC1 (in), 2 SYNC2 (in), 3 DIN0 (in), 4 DIN1 (in), 5 DIN2 (in), 6 DIN3 (in), 7 DIN4 (in), 8 DIN5 (in), 9 DIN6 (in), 10 DIN7 (in), 11 DIN8 (in), 12 DIN9 (in), 13 TCLK_R/~{F} (in), 14 TCLK (in), 15 DGND (power), 16 DGND (power), 17 AVCC (power), 18 AGND (power), 19 DEN (in), 20 AGND (power), 21 DO- (hiz), 22 DO+ (hiz), 23 AGND (power), 24 ~{PWRDN} (in), 25 AGND (power), 26 AVCC (power), 27 DVCC (power), 28 DVCC (power)

## DS92LV1023EMQ/NOPB
designator U?
30-66 MHz 10-Bit Serializer, 28-pin SSOP-EIAJ, Pb-Free; PartNumber: DS92LV1023EMQ/NOPB; Manufacturer: National Semiconductor; PackageTopMarking: NSUZXYTTE#*DS92LV1023*EMQ; PowerWise: N; CompType: Interface IC; Published: 1-Mar-2010; DatasheetVersion: Apr-2005; PackageVersion: revC, Oct-2009; PackageReference: MSA28; Publisher: Altium Limited; PackageDescription: Molded SSOP, 5.3mm Body Width, 0.65mm Pitch, EIAJ, Type II, 28 Lead; Supplier 1: Digi-Key; Supplier Part Number 1: DS92LV1023EMQ-ND; Supplier 2: Farnell; Supplier Part Number 2: 1694655; RoHS: Y; PinCount: 28; Code_IPC: SOP65P780-28; ComponentLink1Description: DS92LV1023E Datasheet; ComponentLink1URL: http://www.national.com/ds/DS/DS92LV1023E.pdf; ComponentLink2Description: DS92LV1023E Web Page; ComponentLink2URL: http://www.national.com/pf/DS/DS92LV1023E.html; ComponentLink3Description: MSA28 Package Page; ComponentLink3URL: http://www.national.com/packaging/folders/msa28.html
footprint MSA28_N (SOP, 28-Leads, Body 10.2x5.3mm, Pitch 0.65mm, IPC Medium Density)
footprint MSA28_L (SOP, 28-Leads, Body 10.2x5.3mm, Pitch 0.65mm, IPC High Density)
footprint MSA28_M (SOP, 28-Leads, Body 10.2x5.3mm, Pitch 0.65mm, IPC Low Density)
pins: 1 SYNC1 (in), 2 SYNC2 (in), 3 DIN0 (in), 4 DIN1 (in), 5 DIN2 (in), 6 DIN3 (in), 7 DIN4 (in), 8 DIN5 (in), 9 DIN6 (in), 10 DIN7 (in), 11 DIN8 (in), 12 DIN9 (in), 13 TCLK_R/~{F} (in), 14 TCLK (in), 15 DGND (power), 16 DGND (power), 17 AVCC (power), 18 AGND (power), 19 DEN (in), 20 AGND (power), 21 DO- (hiz), 22 DO+ (hiz), 23 AGND (power), 24 ~{PWRDN} (in), 25 AGND (power), 26 AVCC (power), 27 DVCC (power), 28 DVCC (power)

## DS92LV1212AMSA
designator U?
16 MHz - 40 MHz 10-Bit Bus LVDS Random Lock Deserializer with Embedded Clock Recovery, 28-pin SSOP-EIAJ; PartNumber: DS92LV1212AMSA; Manufacturer: National Semiconductor; PackageTopMarking: NSUZXYTTE#*DS92LV1212A*MSA; PowerWise: N; CompType: Interface IC; Published: 4-Dec-2008; DatasheetVersion: Nov-2000; PackageVersion: revC, Oct-2009; PackageReference: MSA28; Publisher: Altium Limited; PackageDescription: Molded SSOP, 5.3mm Body Width, 0.65mm Pitch, EIAJ, Type II, 28 Lead; Supplier 1: Farnell; Supplier Part Number 1: 7610683; RoHS: N; PinCount: 28; Code_IPC: SOP65P780-28; ComponentLink1Description: DS92LV1212A Datasheet; ComponentLink1URL: http://www.national.com/ds/DS/DS92LV1212A.pdf; ComponentLink2Description: DS92LV1212A Web Page; ComponentLink2URL: http://www.national.com/pf/DS/DS92LV1212A.html; ComponentLink3Description: MSA28 Package Page; ComponentLink3URL: http://www.national.com/packaging/folders/msa28.html
footprint MSA28_N (SOP, 28-Leads, Body 10.2x5.3mm, Pitch 0.65mm, IPC Medium Density)
footprint MSA28_L (SOP, 28-Leads, Body 10.2x5.3mm, Pitch 0.65mm, IPC High Density)
footprint MSA28_M (SOP, 28-Leads, Body 10.2x5.3mm, Pitch 0.65mm, IPC Low Density)
pins: 1 AGND (power), 2 RCLK_R/~{F} (in), 3 REFCLK (in), 4 AVCC (power), 5 RI+ (in), 6 RI- (in), 7 ~{PWRDN} (in), 8 REN (in), 9 RCLK (out), 10 ~{LOCK} (out), 11 AVCC (power), 12 AGND (power), 13 AGND (power), 14 DGND (power), 15 ROUT9 (hiz), 16 ROUT8 (hiz), 17 ROUT7 (hiz), 18 ROUT6 (hiz), 19 ROUT5 (hiz), 20 DGND (power), 21 DVCC (power), 22 DGND (power), 23 DVCC (power), 24 ROUT4 (hiz), 25 ROUT3 (hiz), 26 ROUT2 (hiz), 27 ROUT1 (hiz), 28 ROUT0 (hiz)

## DS92LV1212AMSA/NOPB
designator U?
16 MHz - 40 MHz 10-Bit Bus LVDS Random Lock Deserializer with Embedded Clock Recovery, 28-pin SSOP-EIAJ, Pb-Free; PartNumber: DS92LV1212AMSA/NOPB; Manufacturer: National Semiconductor; PackageTopMarking: NSUZXYTTE#*DS92LV1212A*MSA; PowerWise: N; CompType: Interface IC; Published: 1-Mar-2010; DatasheetVersion: Nov-2000; PackageVersion: revC, Oct-2009; PackageReference: MSA28; Publisher: Altium Limited; PackageDescription: Molded SSOP, 5.3mm Body Width, 0.65mm Pitch, EIAJ, Type II, 28 Lead; Supplier 1: Digi-Key; Supplier Part Number 1: DS92LV1212AMSA-ND; RoHS: Y; PinCount: 28; Code_IPC: SOP65P780-28; ComponentLink1Description: DS92LV1212A Datasheet; ComponentLink1URL: http://www.national.com/ds/DS/DS92LV1212A.pdf; ComponentLink2Description: DS92LV1212A Web Page; ComponentLink2URL: http://www.national.com/pf/DS/DS92LV1212A.html; ComponentLink3Description: MSA28 Package Page; ComponentLink3URL: http://www.national.com/packaging/folders/msa28.html
footprint MSA28_N (SOP, 28-Leads, Body 10.2x5.3mm, Pitch 0.65mm, IPC Medium Density)
footprint MSA28_L (SOP, 28-Leads, Body 10.2x5.3mm, Pitch 0.65mm, IPC High Density)
footprint MSA28_M (SOP, 28-Leads, Body 10.2x5.3mm, Pitch 0.65mm, IPC Low Density)
pins: 1 AGND (power), 2 RCLK_R/~{F} (in), 3 REFCLK (in), 4 AVCC (power), 5 RI+ (in), 6 RI- (in), 7 ~{PWRDN} (in), 8 REN (in), 9 RCLK (out), 10 ~{LOCK} (out), 11 AVCC (power), 12 AGND (power), 13 AGND (power), 14 DGND (power), 15 ROUT9 (hiz), 16 ROUT8 (hiz), 17 ROUT7 (hiz), 18 ROUT6 (hiz), 19 ROUT5 (hiz), 20 DGND (power), 21 DVCC (power), 22 DGND (power), 23 DVCC (power), 24 ROUT4 (hiz), 25 ROUT3 (hiz), 26 ROUT2 (hiz), 27 ROUT1 (hiz), 28 ROUT0 (hiz)

## DS92LV1212AMSAX
designator U?
16 MHz - 40 MHz 10-Bit Bus LVDS Random Lock Deserializer with Embedded Clock Recovery, 28-pin SSOP-EIAJ; PartNumber: DS92LV1212AMSAX; Manufacturer: National Semiconductor; PackageTopMarking: NSUZXYTTE#*DS92LV1212A*MSA; PowerWise: N; CompType: Interface IC; Published: 1-Mar-2010; DatasheetVersion: Nov-2000; PackageVersion: revC, Oct-2009; PackageReference: MSA28; Publisher: Altium Limited; PackageDescription: Molded SSOP, 5.3mm Body Width, 0.65mm Pitch, EIAJ, Type II, 28 Lead; RoHS: N; PinCount: 28; Code_IPC: SOP65P780-28; ComponentLink1Description: DS92LV1212A Datasheet; ComponentLink1URL: http://www.national.com/ds/DS/DS92LV1212A.pdf; ComponentLink2Description: DS92LV1212A Web Page; ComponentLink2URL: http://www.national.com/pf/DS/DS92LV1212A.html; ComponentLink3Description: MSA28 Package Page; ComponentLink3URL: http://www.national.com/packaging/folders/msa28.html
footprint MSA28_N (SOP, 28-Leads, Body 10.2x5.3mm, Pitch 0.65mm, IPC Medium Density)
footprint MSA28_L (SOP, 28-Leads, Body 10.2x5.3mm, Pitch 0.65mm, IPC High Density)
footprint MSA28_M (SOP, 28-Leads, Body 10.2x5.3mm, Pitch 0.65mm, IPC Low Density)
pins: 1 AGND (power), 2 RCLK_R/~{F} (in), 3 REFCLK (in), 4 AVCC (power), 5 RI+ (in), 6 RI- (in), 7 ~{PWRDN} (in), 8 REN (in), 9 RCLK (out), 10 ~{LOCK} (out), 11 AVCC (power), 12 AGND (power), 13 AGND (power), 14 DGND (power), 15 ROUT9 (hiz), 16 ROUT8 (hiz), 17 ROUT7 (hiz), 18 ROUT6 (hiz), 19 ROUT5 (hiz), 20 DGND (power), 21 DVCC (power), 22 DGND (power), 23 DVCC (power), 24 ROUT4 (hiz), 25 ROUT3 (hiz), 26 ROUT2 (hiz), 27 ROUT1 (hiz), 28 ROUT0 (hiz)

## DS92LV1224TMSA
designator U?
30-66 MHz 10-Bit Deserializer, 28-pin SSOP-EIAJ; PartNumber: DS92LV1224TMSA; Manufacturer: National Semiconductor; PackageTopMarking: NSUZXYTTE#*DS92LV1224T*MSA; PowerWise: N; CompType: Interface IC; Published: 4-Dec-2008; DatasheetVersion: Apr-2005; PackageVersion: revC, Oct-2009; PackageReference: MSA28; Publisher: Altium Limited; PackageDescription: Molded SSOP, 5.3mm Body Width, 0.65mm Pitch, EIAJ, Type II, 28 Lead; Supplier 1: Farnell; Supplier Part Number 1: 1798311; RoHS: N; PinCount: 28; Code_IPC: SOP65P780-28; ComponentLink1Description: DS92LV1224 Datasheet; ComponentLink1URL: http://www.national.com/ds/DS/DS92LV1224.pdf; ComponentLink2Description: DS92LV1224 Web Page; ComponentLink2URL: http://www.national.com/pf/DS/DS92LV1224.html; ComponentLink3Description: MSA28 Package Page; ComponentLink3URL: http://www.national.com/packaging/folders/msa28.html
footprint MSA28_N (SOP, 28-Leads, Body 10.2x5.3mm, Pitch 0.65mm, IPC Medium Density)
footprint MSA28_L (SOP, 28-Leads, Body 10.2x5.3mm, Pitch 0.65mm, IPC High Density)
footprint MSA28_M (SOP, 28-Leads, Body 10.2x5.3mm, Pitch 0.65mm, IPC Low Density)
pins: 1 AGND (power), 2 RCLK_R/~{F} (in), 3 REFCLK (in), 4 AVCC (power), 5 RI+ (in), 6 RI- (in), 7 ~{PWRDN} (in), 8 REN (in), 9 RCLK (out), 10 ~{LOCK} (out), 11 AVCC (power), 12 AGND (power), 13 AGND (power), 14 DGND (power), 15 ROUT9 (hiz), 16 ROUT8 (hiz), 17 ROUT7 (hiz), 18 ROUT6 (hiz), 19 ROUT5 (hiz), 20 DGND (power), 21 DVCC (power), 22 DGND (power), 23 DVCC (power), 24 ROUT4 (hiz), 25 ROUT3 (hiz), 26 ROUT2 (hiz), 27 ROUT1 (hiz), 28 ROUT0 (hiz)

## DS92LV1224TMSA/NOPB
designator U?
30-66 MHz 10-Bit Deserializer, 28-pin SSOP-EIAJ, Pb-Free; PartNumber: DS92LV1224TMSA/NOPB; Manufacturer: National Semiconductor; PackageTopMarking: NSUZXYTTE#*DS92LV1224T*MSA; PowerWise: N; CompType: Interface IC; Published: 1-Mar-2010; DatasheetVersion: Apr-2005; PackageVersion: revC, Oct-2009; PackageReference: MSA28; Publisher: Altium Limited; PackageDescription: Molded SSOP, 5.3mm Body Width, 0.65mm Pitch, EIAJ, Type II, 28 Lead; Supplier 1: Digi-Key; Supplier Part Number 1: DS92LV1224TMSA-ND; Supplier 2: Farnell; Supplier Part Number 2: 1559313; RoHS: Y; PinCount: 28; Code_IPC: SOP65P780-28; ComponentLink1Description: DS92LV1224 Datasheet; ComponentLink1URL: http://www.national.com/ds/DS/DS92LV1224.pdf; ComponentLink2Description: DS92LV1224 Web Page; ComponentLink2URL: http://www.national.com/pf/DS/DS92LV1224.html; ComponentLink3Description: MSA28 Package Page; ComponentLink3URL: http://www.national.com/packaging/folders/msa28.html
footprint MSA28_N (SOP, 28-Leads, Body 10.2x5.3mm, Pitch 0.65mm, IPC Medium Density)
footprint MSA28_L (SOP, 28-Leads, Body 10.2x5.3mm, Pitch 0.65mm, IPC High Density)
footprint MSA28_M (SOP, 28-Leads, Body 10.2x5.3mm, Pitch 0.65mm, IPC Low Density)
pins: 1 AGND (power), 2 RCLK_R/~{F} (in), 3 REFCLK (in), 4 AVCC (power), 5 RI+ (in), 6 RI- (in), 7 ~{PWRDN} (in), 8 REN (in), 9 RCLK (out), 10 ~{LOCK} (out), 11 AVCC (power), 12 AGND (power), 13 AGND (power), 14 DGND (power), 15 ROUT9 (hiz), 16 ROUT8 (hiz), 17 ROUT7 (hiz), 18 ROUT6 (hiz), 19 ROUT5 (hiz), 20 DGND (power), 21 DVCC (power), 22 DGND (power), 23 DVCC (power), 24 ROUT4 (hiz), 25 ROUT3 (hiz), 26 ROUT2 (hiz), 27 ROUT1 (hiz), 28 ROUT0 (hiz)

## DS92LV1224TMSAX
designator U?
30-66 MHz 10-Bit Deserializer, 28-pin SSOP-EIAJ; PartNumber: DS92LV1224TMSAX; Manufacturer: National Semiconductor; PackageTopMarking: NSUZXYTTE#*DS92LV1224T*MSA; PowerWise: N; CompType: Interface IC; Published: 1-Mar-2010; DatasheetVersion: Apr-2005; PackageVersion: revC, Oct-2009; PackageReference: MSA28; Publisher: Altium Limited; PackageDescription: Molded SSOP, 5.3mm Body Width, 0.65mm Pitch, EIAJ, Type II, 28 Lead; RoHS: N; PinCount: 28; Code_IPC: SOP65P780-28; ComponentLink1Description: DS92LV1224 Datasheet; ComponentLink1URL: http://www.national.com/ds/DS/DS92LV1224.pdf; ComponentLink2Description: DS92LV1224 Web Page; ComponentLink2URL: http://www.national.com/pf/DS/DS92LV1224.html; ComponentLink3Description: MSA28 Package Page; ComponentLink3URL: http://www.national.com/packaging/folders/msa28.html
footprint MSA28_N (SOP, 28-Leads, Body 10.2x5.3mm, Pitch 0.65mm, IPC Medium Density)
footprint MSA28_L (SOP, 28-Leads, Body 10.2x5.3mm, Pitch 0.65mm, IPC High Density)
footprint MSA28_M (SOP, 28-Leads, Body 10.2x5.3mm, Pitch 0.65mm, IPC Low Density)
pins: 1 AGND (power), 2 RCLK_R/~{F} (in), 3 REFCLK (in), 4 AVCC (power), 5 RI+ (in), 6 RI- (in), 7 ~{PWRDN} (in), 8 REN (in), 9 RCLK (out), 10 ~{LOCK} (out), 11 AVCC (power), 12 AGND (power), 13 AGND (power), 14 DGND (power), 15 ROUT9 (hiz), 16 ROUT8 (hiz), 17 ROUT7 (hiz), 18 ROUT6 (hiz), 19 ROUT5 (hiz), 20 DGND (power), 21 DVCC (power), 22 DGND (power), 23 DVCC (power), 24 ROUT4 (hiz), 25 ROUT3 (hiz), 26 ROUT2 (hiz), 27 ROUT1 (hiz), 28 ROUT0 (hiz)

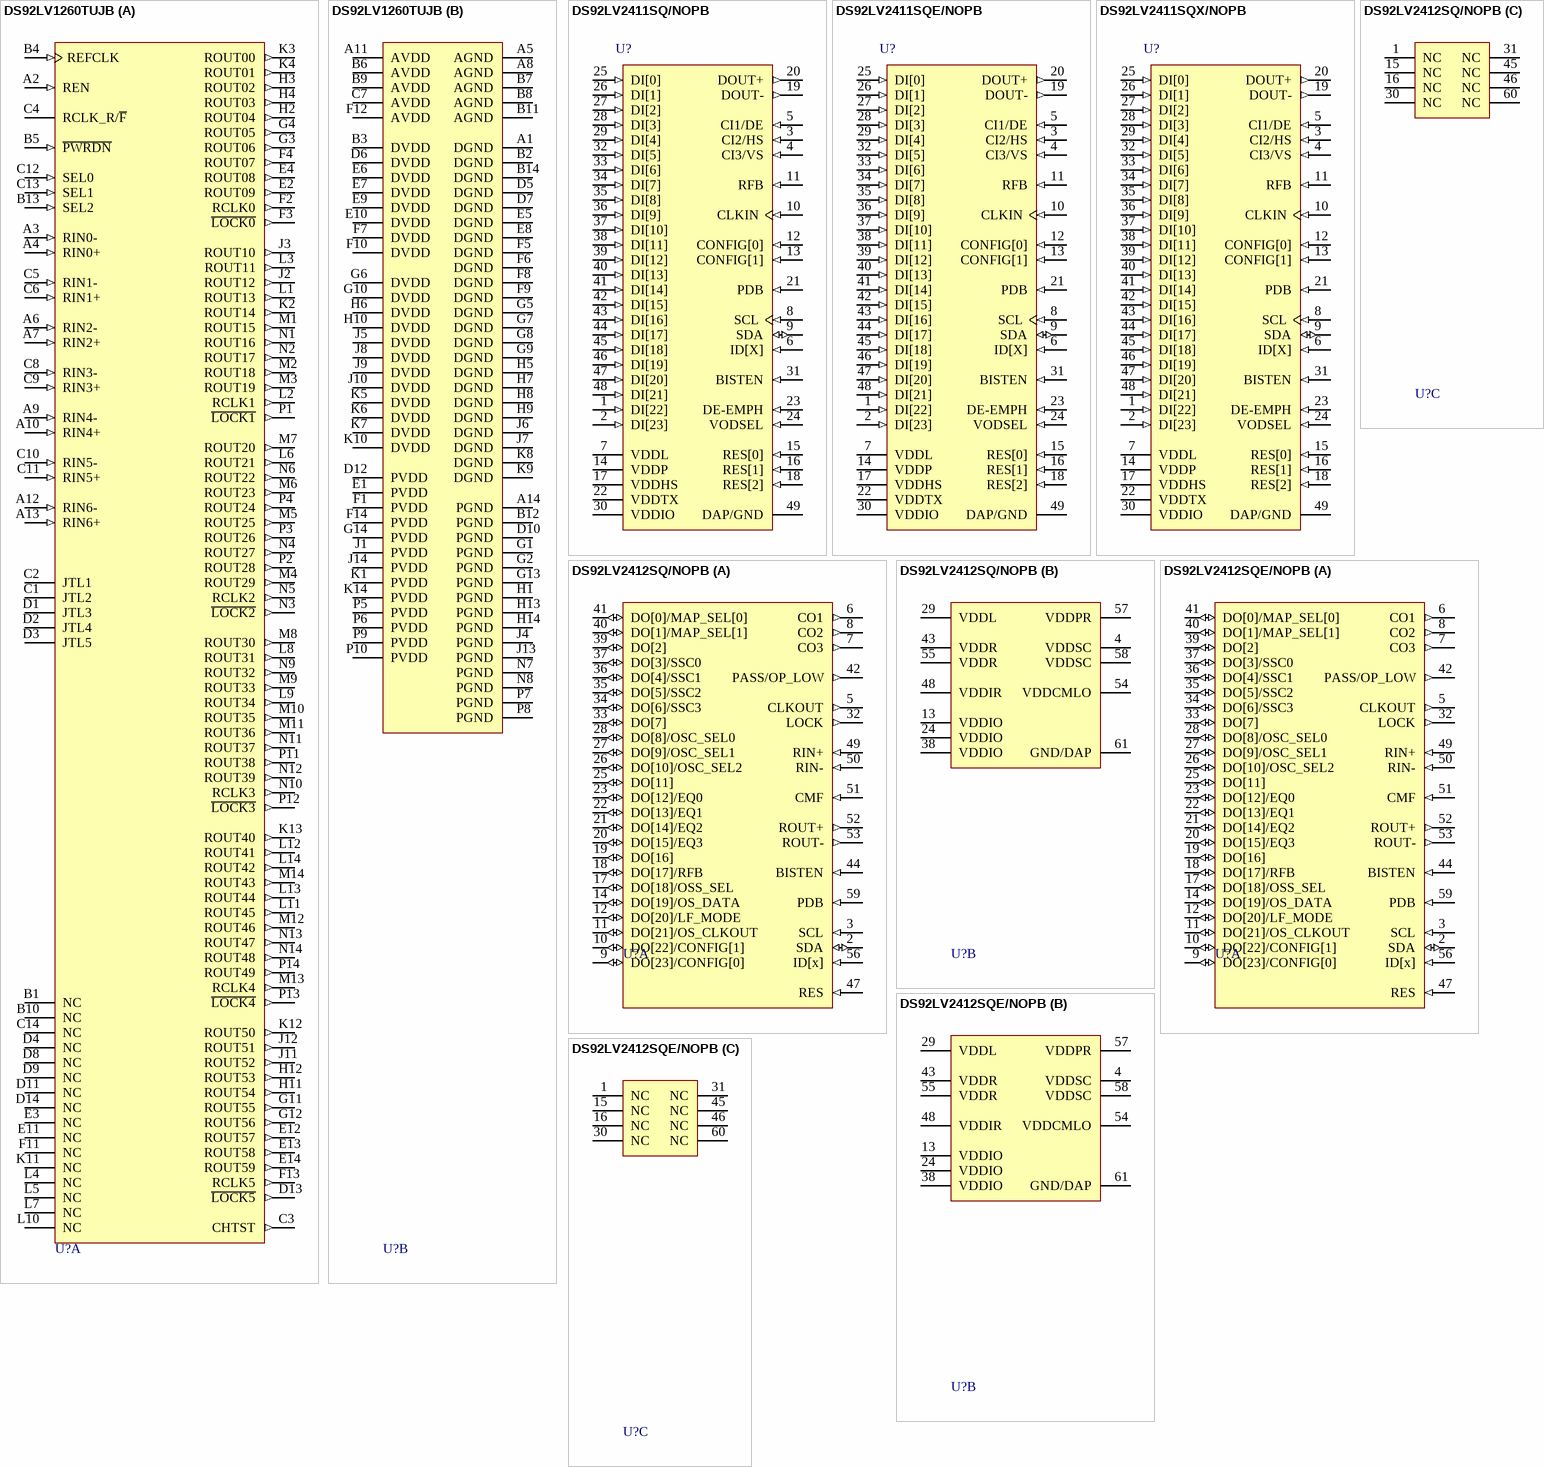
[diagram p67: symbols DS92LV1260TUJB to DS92LV2412SQE/NOPB]

## DS92LV1260TUJB
designator U?
Six 1 to 10 deserializers, 196-pin LBGA; PartNumber: DS92LV1260TUJB; Manufacturer: National Semiconductor; PackageTopMarking: NSUZXYYTTE#*DS92LV1260T*UJB*BBBBB; PowerWise: N; CompType: Interface IC; Published: 4-Dec-2008; DatasheetVersion: Aug-2003; PackageVersion: revC, Jul-2005; PackageReference: UJB196A; Publisher: Altium Limited; PackageDescription: LBGA, 15 x 15 x 1.37mm, 196 Ball, 1.0mm Pitch; RoHS: N; PinCount: 196; Code_JEDEC: MO-192-AAE-1; ComponentLink1Description: DS92LV1260 Datasheet; ComponentLink1URL: http://www.national.com/ds/DS/DS92LV1260.pdf; ComponentLink2Description: DS92LV1260 Web Page; ComponentLink2URL: http://www.national.com/pf/DS/DS92LV1260.html; ComponentLink3Description: UJB196A Package Page; ComponentLink3URL: http://www.national.com/packaging/folders/ujb196a.html
footprint UJB196A (BGA, 196-Leads, Body 15x15mm, Pitch 1mm)
part A pins: A2 REN (in), A3 RIN0- (in), A4 RIN0+ (in), A6 RIN2- (in), A7 RIN2+ (in), A9 RIN4- (in), A10 RIN4+ (in), A12 RIN6- (in), A13 RIN6+ (in), B1 NC, B4 REFCLK (in), B5 ~{PWRDN} (in), B10 NC, B13 SEL2 (in), C1 JTL2, C2 JTL1, C3 CHTST (out), C4 RCLK_R/~{F} (power), C5 RIN1- (in), C6 RIN1+ (in), C8 RIN3- (in), C9 RIN3+ (in), C10 RIN5- (in), C11 RIN5+ (in), C12 SEL0 (in), C13 SEL1 (in), C14 NC, D1 JTL3, D2 JTL4, D3 JTL5, D4 NC, D8 NC, D9 NC, D11 NC, D13 ~{LOCK5} (out), D14 NC, E2 ROUT09 (out), E3 NC, E4 ROUT08 (out), E11 NC, E12 ROUT57 (out), E13 ROUT58 (out), E14 ROUT59 (out), F2 RCLK0 (out), F3 ~{LOCK0} (out), F4 ROUT07 (out), F11 NC, F13 RCLK5 (out), G3 ROUT06 (out), G4 ROUT05 (out), G11 ROUT55 (out), G12 ROUT56 (out), H2 ROUT04 (out), H3 ROUT02 (out), H4 ROUT03 (out), H11 ROUT54 (out), H12 ROUT53 (out), J2 ROUT12 (out), J3 ROUT10 (out), J11 ROUT52 (out), J12 ROUT51 (out), K2 ROUT14 (out), K3 ROUT00 (out), K4 ROUT01 (out), K11 NC, K12 ROUT50 (out), K13 ROUT40 (out), L1 ROUT13 (out), L2 RCLK1 (out), L3 ROUT11 (out), L4 NC, L5 NC, L6 ROUT21 (out), L7 NC, L8 ROUT31 (out), L9 ROUT34 (out), L10 NC, L11 ROUT45 (out), L12 ROUT41 (out), L13 ROUT44 (out), L14 ROUT42 (out), M1 ROUT15 (out), M2 ROUT18 (out), M3 ROUT19 (out), M4 ROUT29 (out), M5 ROUT25 (out), M6 ROUT23 (out), M7 ROUT20 (out), M8 ROUT30 (out), M9 ROUT33 (out), M10 ROUT35 (out), M11 ROUT36 (out), M12 ROUT46 (out), M13 RCLK4 (out), M14 ROUT43 (out), N1 ROUT16 (out), N2 ROUT17 (out), N3 ~{LOCK2} (out), N4 ROUT27 (out), N5 RCLK2 (out), N6 ROUT22 (out), N9 ROUT32 (out), N10 RCLK3 (out), N11 ROUT37 (out), N12 ROUT39 (out), N13 ROUT47 (out), N14 ROUT48 (out), P1 ~{LOCK1} (out), P2 ROUT28 (out), P3 ROUT26 (out), P4 ROUT24 (out), P11 ROUT38 (out), P12 ~{LOCK3} (out), P13 ~{LOCK4} (out), P14 ROUT49 (out)
part B pins: A1 DGND (power), A5 AGND (power), A8 AGND (power), A11 AVDD (power), A14 PGND (power), B2 DGND (power), B3 DVDD (power), B6 AVDD (power), B7 AGND (power), B8 AGND (power), B9 AVDD (power), B11 AGND (power), B12 PGND (power), B14 DGND (power), C7 AVDD (power), D5 DGND (power), D6 DVDD (power), D7 DGND (power), D10 PGND (power), D12 PVDD (power), E1 PVDD (power), E5 DGND (power), E6 DVDD (power), E7 DVDD (power), E8 DGND (power), E9 DVDD (power), E10 DVDD (power), F1 PVDD (power), F5 DGND (power), F6 DGND (power), F7 DVDD (power), F8 DGND (power), F9 DGND (power), F10 DVDD (power), F12 AVDD (power), F14 PVDD (power), G1 PGND (power), G2 PGND (power), G5 DGND (power), G6 DVDD (power), G7 DGND (power), G8 DGND (power), G9 DGND (power), G10 DVDD (power), G13 PGND (power), G14 PVDD (power), H1 PGND (power), H5 DGND (power), H6 DVDD (power), H7 DGND (power), H8 DGND (power), H9 DGND (power), H10 DVDD (power), H13 PGND (power), H14 PGND (power), J1 PVDD (power), J4 PGND (power), J5 DVDD (power), J6 DGND (power), J7 DGND (power), J8 DVDD (power), J9 DVDD (power), J10 DVDD (power), J13 PGND (power), J14 PVDD (power), K1 PVDD (power), K5 DVDD (power), K6 DVDD (power), K7 DVDD (power), K8 DGND (power), K9 DGND (power), K10 DVDD (power), K14 PVDD (power), N7 PGND (power), N8 PGND (power), P5 PVDD (power), P6 PVDD (power), P7 PGND (power), P8 PGND (power), P9 PVDD (power), P10 PVDD (power)

## DS92LV2411SQ/NOPB
designator U?
5-50MHz 24-Bit Channel Link II Serializer, 48 pin LLP; PartNumber: DS92LV2411SQ/NOPB; Manufacturer: National Semiconductor; PackageTopMarking: NS*UZXYTTE#*LV2411SQ; PowerWise: N; CompType: Interface IC; Published: 16-Nov-2010; DatasheetVersion: May-2010; PackageVersion: revB, May-2009; PackageReference: SQA48A; Publisher: Altium Limited; PackageDescription: LLP, Plastic, Quad, 7 x 7 x 0.8mm Body, 48 Lead, 0.5mm Pitch, No Pullback; RoHS: Y; PinCount: 48; Code_JEDEC: MO-220-WKKD-2; ComponentLink1Description: DS92LV2411 Datasheet; ComponentLink1URL: http://www.national.com/ds/DS/DS92LV2411.pdf; ComponentLink2Description: DS92LV2411 Web Page; ComponentLink2URL: http://www.national.com/pf/DS/DS92LV2411.html; ComponentLink3Description: SQA48A Package Page; ComponentLink3URL: http://www.national.com/packaging/folders/sqa48a.html
footprint SQA48A (QFN, 48-Leads, Body 7x7mm, Pitch 0.5mm, NSC Recommended)
pins: 1 DI[22] (in), 2 DI[23] (in), 3 CI2/HS (in), 4 CI3/VS (in), 5 CI1/DE (in), 6 ID[X] (in), 7 VDDL (power), 8 SCL (in), 9 SDA (io), 10 CLKIN (in), 11 RFB (in), 12 CONFIG[0] (in), 13 CONFIG[1] (in), 14 VDDP (power), 15 RES[0] (in), 16 RES[1] (in), 17 VDDHS (power), 18 RES[2] (in), 19 DOUT- (out), 20 DOUT+ (out), 21 PDB (in), 22 VDDTX (power), 23 DE-EMPH (in), 24 VODSEL (in), 25 DI[0] (in), 26 DI[1] (in), 27 DI[2] (in), 28 DI[3] (in), 29 DI[4] (in), 30 VDDIO (power), 31 BISTEN (in), 32 DI[5] (in), 33 DI[6] (in), 34 DI[7] (in), 35 DI[8] (in), 36 DI[9] (in), 37 DI[10] (in), 38 DI[11] (in), 39 DI[12] (in), 40 DI[13] (in), 41 DI[14] (in), 42 DI[15] (in), 43 DI[16] (in), 44 DI[17] (in), 45 DI[18] (in), 46 DI[19] (in), 47 DI[20] (in), 48 DI[21] (in), 49 DAP/GND (power)

## DS92LV2411SQE/NOPB
designator U?
5-50MHz 24-Bit Channel Link II Serializer, 48 pin LLP; PartNumber: DS92LV2411SQE/NOPB; Manufacturer: National Semiconductor; PackageTopMarking: NS*UZXYTTE#*LV2411SQ; PowerWise: N; CompType: Interface IC; Published: 16-Nov-2010; DatasheetVersion: May-2010; PackageVersion: revB, May-2009; PackageReference: SQA48A; Publisher: Altium Limited; PackageDescription: LLP, Plastic, Quad, 7 x 7 x 0.8mm Body, 48 Lead, 0.5mm Pitch, No Pullback; Supplier 1: Digi-Key; Supplier Part Number 1: DS92LV2411SQE/NOPBTR-ND; Supplier 2: Digi-Key; Supplier Part Number 2: DS92LV2411SQE/NOPBCT-ND; Supplier 3: Digi-Key; Supplier Part Number 3: DS92LV2411SQE/NOPBDKR-ND; RoHS: Y; PinCount: 48; Code_JEDEC: MO-220-WKKD-2; ComponentLink1Description: DS92LV2411 Datasheet; ComponentLink1URL: http://www.national.com/ds/DS/DS92LV2411.pdf; ComponentLink2Description: DS92LV2411 Web Page; ComponentLink2URL: http://www.national.com/pf/DS/DS92LV2411.html; ComponentLink3Description: SQA48A Package Page; ComponentLink3URL: http://www.national.com/packaging/folders/sqa48a.html
footprint SQA48A (QFN, 48-Leads, Body 7x7mm, Pitch 0.5mm, NSC Recommended)
pins: 1 DI[22] (in), 2 DI[23] (in), 3 CI2/HS (in), 4 CI3/VS (in), 5 CI1/DE (in), 6 ID[X] (in), 7 VDDL (power), 8 SCL (in), 9 SDA (io), 10 CLKIN (in), 11 RFB (in), 12 CONFIG[0] (in), 13 CONFIG[1] (in), 14 VDDP (power), 15 RES[0] (in), 16 RES[1] (in), 17 VDDHS (power), 18 RES[2] (in), 19 DOUT- (out), 20 DOUT+ (out), 21 PDB (in), 22 VDDTX (power), 23 DE-EMPH (in), 24 VODSEL (in), 25 DI[0] (in), 26 DI[1] (in), 27 DI[2] (in), 28 DI[3] (in), 29 DI[4] (in), 30 VDDIO (power), 31 BISTEN (in), 32 DI[5] (in), 33 DI[6] (in), 34 DI[7] (in), 35 DI[8] (in), 36 DI[9] (in), 37 DI[10] (in), 38 DI[11] (in), 39 DI[12] (in), 40 DI[13] (in), 41 DI[14] (in), 42 DI[15] (in), 43 DI[16] (in), 44 DI[17] (in), 45 DI[18] (in), 46 DI[19] (in), 47 DI[20] (in), 48 DI[21] (in), 49 DAP/GND (power)